# EAGLE library part MICROHAL_CONNECTOR_M_1 (library microhal-connector_v0.1)
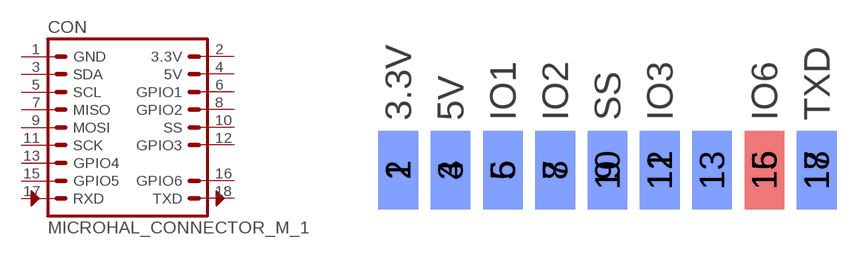
[diagram p2: symbol with the pads of MICROHAL_CONNECTOR_M_1_EDGE; footprint MICROHAL_CONNECTOR_M_1_EDGE]

Designator prefix CON

## MICROHAL_CONNECTOR_M_1  [MICROHAL_CONNECTOR_M_1_EDGE]
1  GND  pas
2  3.3V  pas
3  SDA  pas
4  5V  pas
5  SCL  pas
6  GPIO1  pas
7  MISO  pas
8  GPIO2  pas
9  MOSI  pas
10  SS  pas
11  SCK  pas
12  GPIO3
13  GPIO4
15  GPIO5
16  GPIO6
17  RXD  pas
18  TXD  pas

## Footprint MICROHAL_CONNECTOR_M_1_EDGE (pad centres in mm)
smd 1.93 x 3.81 bottom: 1 -10.16,0; 3 -7.62,0; 5 -5.08,0; 7 -2.54,0; 9 0,0; 11 2.54,0; 13 5.08,0; 15 7.62,0; 17 10.16,0
smd 1.93 x 3.81: 2 -10.16,0; 4 -7.62,0; 6 -5.08,0; 8 -2.54,0; 10 0,0; 12 2.54,0; 16 7.62,0; 18 10.16,0